# Altium footprint library SMS_Library.PcbLib: 7 footprints
Each footprint in its own frame and in the unit in brackets; x right, y up, seen from the top. Pads: shape width x height; smd on the part's side, far side on the other; paste and mask are expansions set on the pad; w line width, h text height; cw(c..) or ccw(c..) is an arc to the next point about the centre after c.
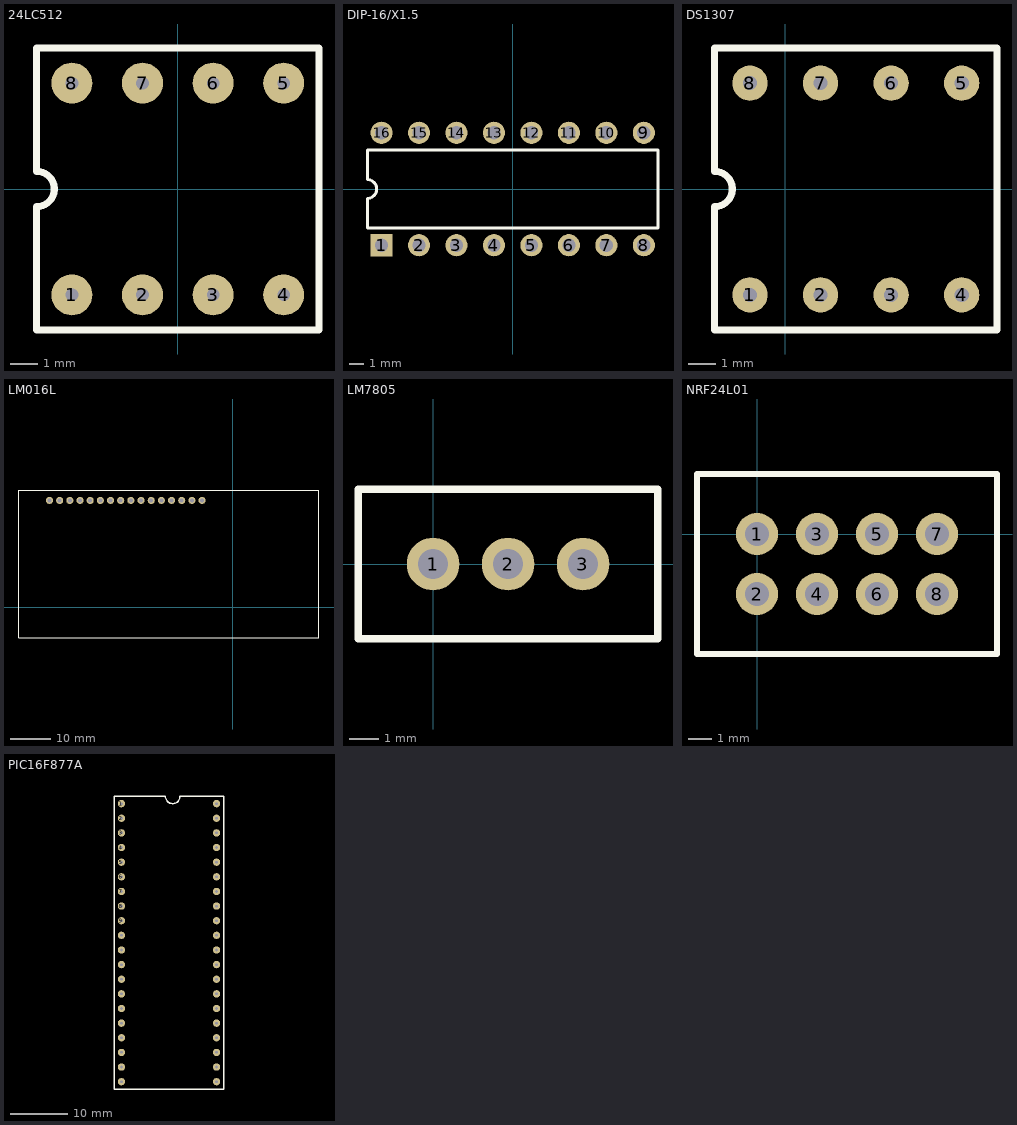
[diagram p0: the footprints below, top view; thin cyan lines are the x and y axes]

## 24LC512 [mil]
pads (8):
  round 58 hole 18: 1(-150,-150) 2(-50,-150) 3(50,-150) 4(150,-150) 5(150,150) 6(50,150) 7(-50,150) 8(-150,150)
Top Overlay:
  lines w10: -200,-200 0,-200 200,-200 200,50 200,200 -200,200 -200,25 cw(c-200,0) -200,-25 -200,-200

## DIP-16/X1.5 [mm]
pads (16):
  rect 1.5x1.5 hole 0.9: 1(-8.89,-3.81)
  round 1.5 hole 0.9: 2(-6.35,-3.81) 3(-3.81,-3.81) 4(-1.27,-3.81) 5(1.27,-3.81) 6(3.81,-3.81) 7(6.35,-3.81) 8(8.89,-3.81) 9(8.89,3.81) 10(6.35,3.81) 11(3.81,3.81) 12(1.27,3.81) 13(-1.27,3.81) 14(-3.81,3.81) 15(-6.35,3.81) 16(-8.89,3.81)
Top Overlay:
  lines w0.2: -9.85,-2.65 9.85,-2.65 9.85,2.65 -9.85,2.65 -9.85,0.635 cw(c-9.85,0) -9.85,-0.635 -9.85,-2.65

## DS1307 [mil]
pads (8):
  round 50 hole 20: 1(-50,-150) 2(50,-150) 3(150,-150) 4(250,-150) 5(250,150) 6(150,150) 7(50,150) 8(-50,150)
Top Overlay:
  lines w10: -100,-200 -100,-25 ccw(c-100,0) -100,25 -100,200 300,200 300,-200 100,-200 -100,-200

## LM016L [mil]
pads (16):
  round 70 hole 40: 1(-1800,1050) 2(-1700,1050) 3(-1600,1050) 4(-1500,1050) 5(-1400,1050) 6(-1300,1050) 7(-1200,1050) 8(-1100,1050) 9(-1000,1050) 10(-900,1050) 11(-800,1050) 12(-700,1050) 13(-600,1050) 14(-500,1050) 15(-400,1050) 16(-300,1050)
Top Overlay:
  lines w10: -2100,-300 -2100,1150 850,1150 850,-300 -2100,-300

## LM7805 [mil]
pads (3):
  round 70 hole 40: 1(0,0) 2(100,0) 3(200,0)
Top Overlay:
  lines w10: -100,-100 -100,100 300,100 300,0 300,-100 -100,-100

## NRF24L01 [mil]
pads (8):
  round 70 hole 40: 1(0,0) 2(0,-100) 3(100,0) 4(100,-100) 5(200,0) 6(200,-100) 7(300,0) 8(300,-100)
Top Overlay:
  lines w10: -100,-200 -100,100 400,100 400,0 400,-200 100,-200 -100,-200

## PIC16F877A [mil]
pads (40):
  round 50 hole 18: 1(-19050,-12550) 2(-19050,-12650) 3(-19050,-12750) 4(-19050,-12850) 5(-19050,-12950) 6(-19050,-13050) 7(-19050,-13150) 8(-19050,-13250) 9(-19050,-13350) 10(-19050,-13450) 11(-19050,-13550) 12(-19050,-13650) 13(-19050,-13750) 14(-19050,-13850) 15(-19050,-13950) 16(-19050,-14050) 17(-19050,-14150) 18(-19050,-14250) 19(-19050,-14350) 20(-19050,-14450) 21(-18400,-14450) 22(-18400,-14350) 23(-18400,-14250) 24(-18400,-14150) 25(-18400,-14050) 26(-18400,-13950) 27(-18400,-13850) 28(-18400,-13750) 29(-18400,-13650) 30(-18400,-13550) 31(-18400,-13450) 32(-18400,-13350) 33(-18400,-13250) 34(-18400,-13150) 35(-18400,-13050) 36(-18400,-12950) 37(-18400,-12850) 38(-18400,-12750) 39(-18400,-12650) 40(-18400,-12550)
Top Overlay:
  lines w10: -19100,-14500 -19100,-12500 -18750,-12500 ccw(c-18700,-12500) -18650,-12500 -18350,-12500 -18350,-13500 -18350,-14500 -18800,-14500 -19100,-14500